# EAGLE library part RJ45-8P8C-16 (library cape)
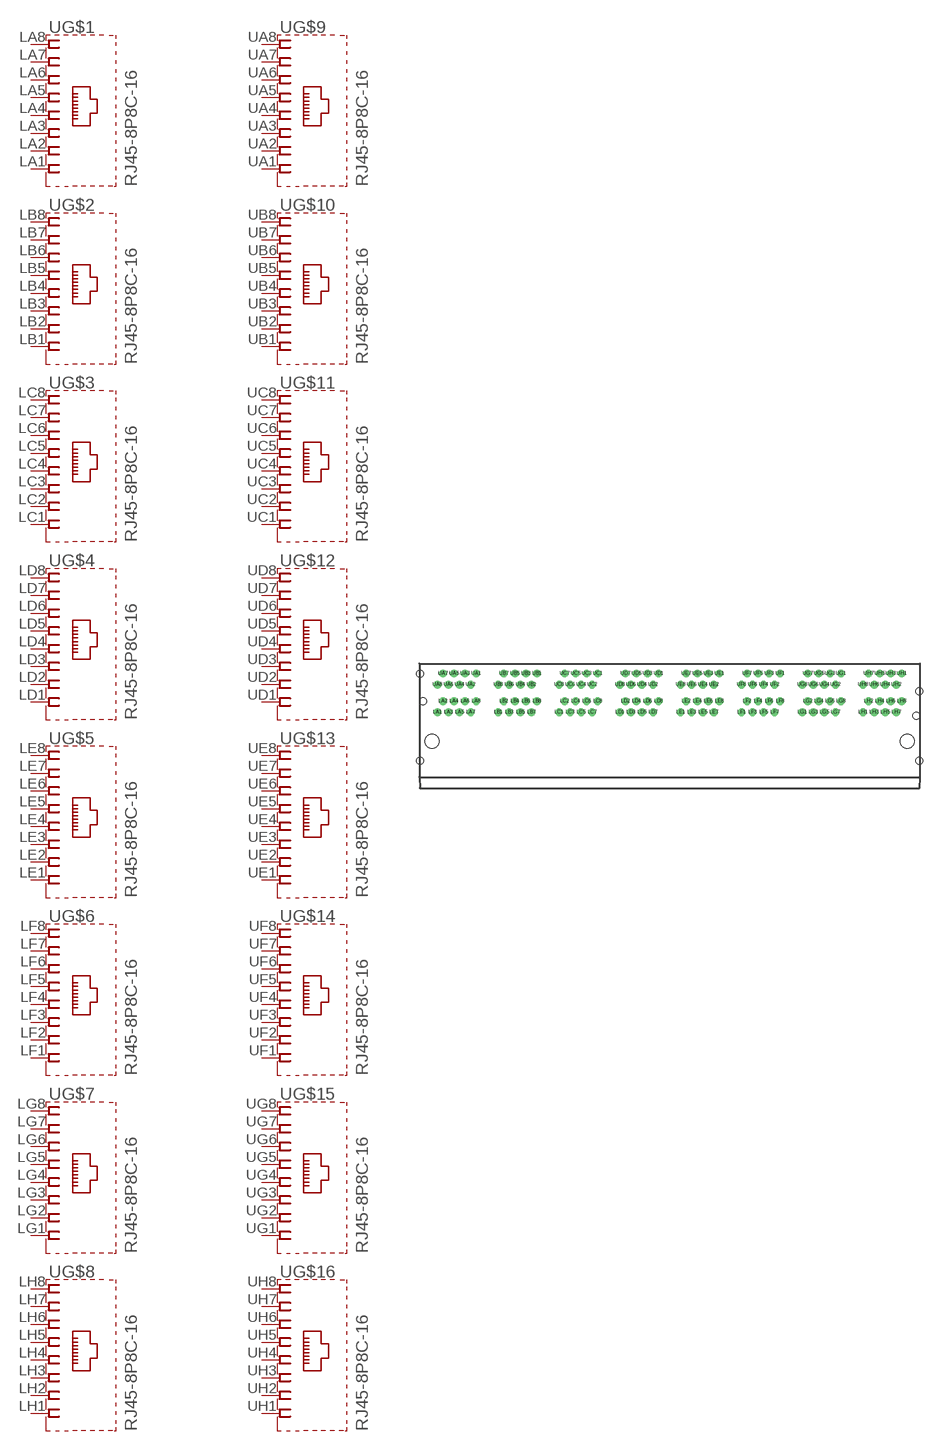
[diagram p5: symbol with the pads of FCI-10118074-500A010LF; footprint FCI-10118074-500A010LF]

Designator prefix -; gates G$1=RJ45-8P8C G$2=RJ45-8P8C G$3=RJ45-8P8C G$4=RJ45-8P8C G$5=RJ45-8P8C G$6=RJ45-8P8C G$7=RJ45-8P8C G$8=RJ45-8P8C G$9=RJ45-8P8C G$10=RJ45-8P8C G$11=RJ45-8P8C G$12=RJ45-8P8C G$13=RJ45-8P8C G$14=RJ45-8P8C G$15=RJ45-8P8C G$16=RJ45-8P8C

## RJ45-8P8C-16FCI-16  [FCI-10118074-500A010LF]
LA1  G$1:1  pas
LA2  G$1:2  pas
LA3  G$1:3  pas
LA4  G$1:4  pas
LA5  G$1:5  pas
LA6  G$1:6  pas
LA7  G$1:7  pas
LA8  G$1:8  pas
LB1  G$2:1  pas
LB2  G$2:2  pas
LB3  G$2:3  pas
LB4  G$2:4  pas
LB5  G$2:5  pas
LB6  G$2:6  pas
LB7  G$2:7  pas
LB8  G$2:8  pas
LC1  G$3:1  pas
LC2  G$3:2  pas
LC3  G$3:3  pas
LC4  G$3:4  pas
LC5  G$3:5  pas
LC6  G$3:6  pas
LC7  G$3:7  pas
LC8  G$3:8  pas
LD1  G$4:1  pas
LD2  G$4:2  pas
LD3  G$4:3  pas
LD4  G$4:4  pas
LD5  G$4:5  pas
LD6  G$4:6  pas
LD7  G$4:7  pas
LD8  G$4:8  pas
LE1  G$5:1  pas
LE2  G$5:2  pas
LE3  G$5:3  pas
LE4  G$5:4  pas
LE5  G$5:5  pas
LE6  G$5:6  pas
LE7  G$5:7  pas
LE8  G$5:8  pas
LF1  G$6:1  pas
LF2  G$6:2  pas
LF3  G$6:3  pas
LF4  G$6:4  pas
LF5  G$6:5  pas
LF6  G$6:6  pas
LF7  G$6:7  pas
LF8  G$6:8  pas
LG1  G$7:1  pas
LG2  G$7:2  pas
LG3  G$7:3  pas
LG4  G$7:4  pas
LG5  G$7:5  pas
LG6  G$7:6  pas
LG7  G$7:7  pas
LG8  G$7:8  pas
LH1  G$8:1  pas
LH2  G$8:2  pas
LH3  G$8:3  pas
LH4  G$8:4  pas
LH5  G$8:5  pas
LH6  G$8:6  pas
LH7  G$8:7  pas
LH8  G$8:8  pas
UA1  G$9:1  pas
UA2  G$9:2  pas
UA3  G$9:3  pas
UA4  G$9:4  pas
UA5  G$9:5  pas
UA6  G$9:6  pas
UA7  G$9:7  pas
UA8  G$9:8  pas
UB1  G$10:1  pas
UB2  G$10:2  pas
UB3  G$10:3  pas
UB4  G$10:4  pas
UB5  G$10:5  pas
UB6  G$10:6  pas
UB7  G$10:7  pas
UB8  G$10:8  pas
UC1  G$11:1  pas
UC2  G$11:2  pas
UC3  G$11:3  pas
UC4  G$11:4  pas
UC5  G$11:5  pas
UC6  G$11:6  pas
UC7  G$11:7  pas
UC8  G$11:8  pas
UD1  G$12:1  pas
UD2  G$12:2  pas
UD3  G$12:3  pas
UD4  G$12:4  pas
UD5  G$12:5  pas
UD6  G$12:6  pas
UD7  G$12:7  pas
UD8  G$12:8  pas
UE1  G$13:1  pas
UE2  G$13:2  pas
UE3  G$13:3  pas
UE4  G$13:4  pas
UE5  G$13:5  pas
UE6  G$13:6  pas
UE7  G$13:7  pas
UE8  G$13:8  pas
UF1  G$14:1  pas
UF2  G$14:2  pas
UF3  G$14:3  pas
UF4  G$14:4  pas
UF5  G$14:5  pas
UF6  G$14:6  pas
UF7  G$14:7  pas
UF8  G$14:8  pas
UG1  G$15:1  pas
UG2  G$15:2  pas
UG3  G$15:3  pas
UG4  G$15:4  pas
UG5  G$15:5  pas
UG6  G$15:6  pas
UG7  G$15:7  pas
UG8  G$15:8  pas
UH1  G$16:1  pas
UH2  G$16:2  pas
UH3  G$16:3  pas
UH4  G$16:4  pas
UH5  G$16:5  pas
UH6  G$16:6  pas
UH7  G$16:7  pas
UH8  G$16:8  pas

## Footprint FCI-10118074-500A010LF (pad centres in mm)
drill 0.9 pad 1.778: LA1 -53.34,6.6; LA2 -52.07,9.14; LA3 -50.8,6.6; LA4 -49.53,9.14; LA5 -48.26,6.6; LA6 -46.99,9.14; LA7 -45.72,6.6; LA8 -44.45,9.14; LB1 -39.37,6.6; LB2 -38.1,9.14; LB3 -36.83,6.6; LB4 -35.56,9.14; LB5 -34.29,6.6; LB6 -33.02,9.14; LB7 -31.75,6.6; LB8 -30.48,9.14; LC1 -25.4,6.6; LC2 -24.13,9.14; LC3 -22.86,6.6; LC4 -21.59,9.14; LC5 -20.32,6.6; LC6 -19.05,9.14; LC7 -17.78,6.6; LC8 -16.51,9.14; LD1 -11.43,6.6; LD2 -10.16,9.14; LD3 -8.89,6.6; LD4 -7.62,9.14; LD5 -6.35,6.6; LD6 -5.08,9.14; LD7 -3.81,6.6; LD8 -2.54,9.14; LE1 2.54,6.6; LE2 3.81,9.14; LE3 5.08,6.6; LE4 6.35,9.14; LE5 7.62,6.6; LE6 8.89,9.14; LE7 10.16,6.6; LE8 11.43,9.14; LF1 16.51,6.6; LF2 17.78,9.14; LF3 19.05,6.6; LF4 20.32,9.14; LF5 21.59,6.6; LF6 22.86,9.14; LF7 24.13,6.6; LF8 25.4,9.14; LG1 30.48,6.6; LG2 31.75,9.14; LG3 33.02,6.6; LG4 34.29,9.14; LG5 35.56,6.6; LG6 36.83,9.14; LG7 38.1,6.6; LG8 39.37,9.14; LH1 44.45,6.6; LH2 45.72,9.14; LH3 46.99,6.6; LH4 48.26,9.14; LH5 49.53,6.6; LH6 50.8,9.14; LH7 52.07,6.6; LH8 53.34,9.14; UA1 -44.45,15.49; UA2 -45.72,12.95; UA3 -46.99,15.49; UA4 -48.26,12.95; UA5 -49.53,15.49; UA6 -50.8,12.95; UA7 -52.07,15.49; UA8 -53.34,12.95; UB1 -30.48,15.49; UB2 -31.75,12.95; UB3 -33.02,15.49; UB4 -34.29,12.95; UB5 -35.56,15.49; UB6 -36.83,12.95; UB7 -38.1,15.49; UB8 -39.37,12.95; UC1 -16.51,15.49; UC2 -17.78,12.95; UC3 -19.05,15.49; UC4 -20.32,12.95; UC5 -21.59,15.49; UC6 -22.86,12.95; UC7 -24.13,15.49; UC8 -25.4,12.95; UD1 -2.54,15.49; UD2 -3.81,12.95; UD3 -5.08,15.49; UD4 -6.35,12.95; UD5 -7.62,15.49; UD6 -8.89,12.95; UD7 -10.16,15.49; UD8 -11.43,12.95; UE1 11.43,15.49; UE2 10.16,12.95; UE3 8.89,15.49; UE4 7.62,12.95; UE5 6.35,15.49; UE6 5.08,12.95; UE7 3.81,15.49; UE8 2.54,12.95; UF1 25.4,15.49; UF2 24.13,12.95; UF3 22.86,15.49; UF4 21.59,12.95; UF5 20.32,15.49; UF6 19.05,12.95; UF7 17.78,15.49; UF8 16.51,12.95; UG1 39.37,15.49; UG2 38.1,12.95; UG3 36.83,15.49; UG4 35.56,12.95; UG5 34.29,15.49; UG6 33.02,12.95; UG7 31.75,15.49; UG8 30.48,12.95; UH1 53.34,15.49; UH2 52.07,12.95; UH3 50.8,15.49; UH4 49.53,12.95; UH5 48.26,15.49; UH6 46.99,12.95; UH7 45.72,15.49; UH8 44.45,12.95
hole 3.2 at -54.61,0
hole 3.2 at 54.61,0
hole 1.6 at -57.4,-4.57
hole 1.6 at 57.4,-4.57
hole 1.6 at -56.64,9.14
hole 1.6 at 56.64,5.84
hole 1.6 at -57.4,15.49
hole 1.6 at 57.4,11.43